# EAGLE library part LINEAR,PGA11X (library QuantumOptics)
PGA111 and PGA112, PGAs with mux from TI, SPI interface.
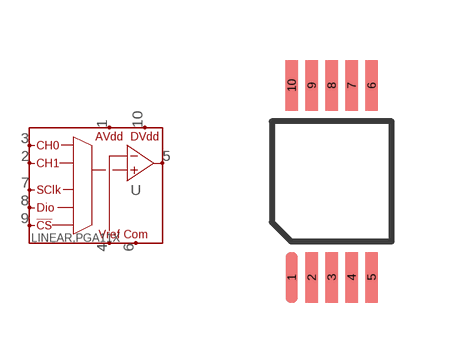
[diagram p223: symbol with the pads of MSOP10; footprint MSOP10]

Designator prefix U

## LINEAR,PGA11X-MSOP10  [MSOP10]
1  AVDD
2  CH1  in
3  CH0  in
4  REF
5  OUT  out
6  COM
7  SCLK  in
8  DIO
9  !CS  in
10  DVDD

## Footprint MSOP10 (pad centres in mm)
MSOP-10, JEDEC MO-187AB. Sameas Maxim's µsop-10 and TI's VSSOP DGA (S-PDSO-G10).
smd 0.305 x 1.27: 1 -1,-2.4; 2 -0.5,-2.4; 3 0,-2.4; 4 0.5,-2.4; 5 1,-2.4; 6 1,2.4; 7 0.5,2.4; 8 0,2.4; 9 -0.5,2.4; 10 -1,2.4